# Altium footprint library SIMetrix Devices.PcbLib: 159 footprints (part 4 of 10)
Each footprint in its own frame and in the unit in brackets; x right, y up, seen from the top. Pads: shape width x height; smd on the part's side, far side on the other; paste and mask are expansions set on the pad; w line width, h text height; cw(c..) or ccw(c..) is an arc to the next point about the centre after c.
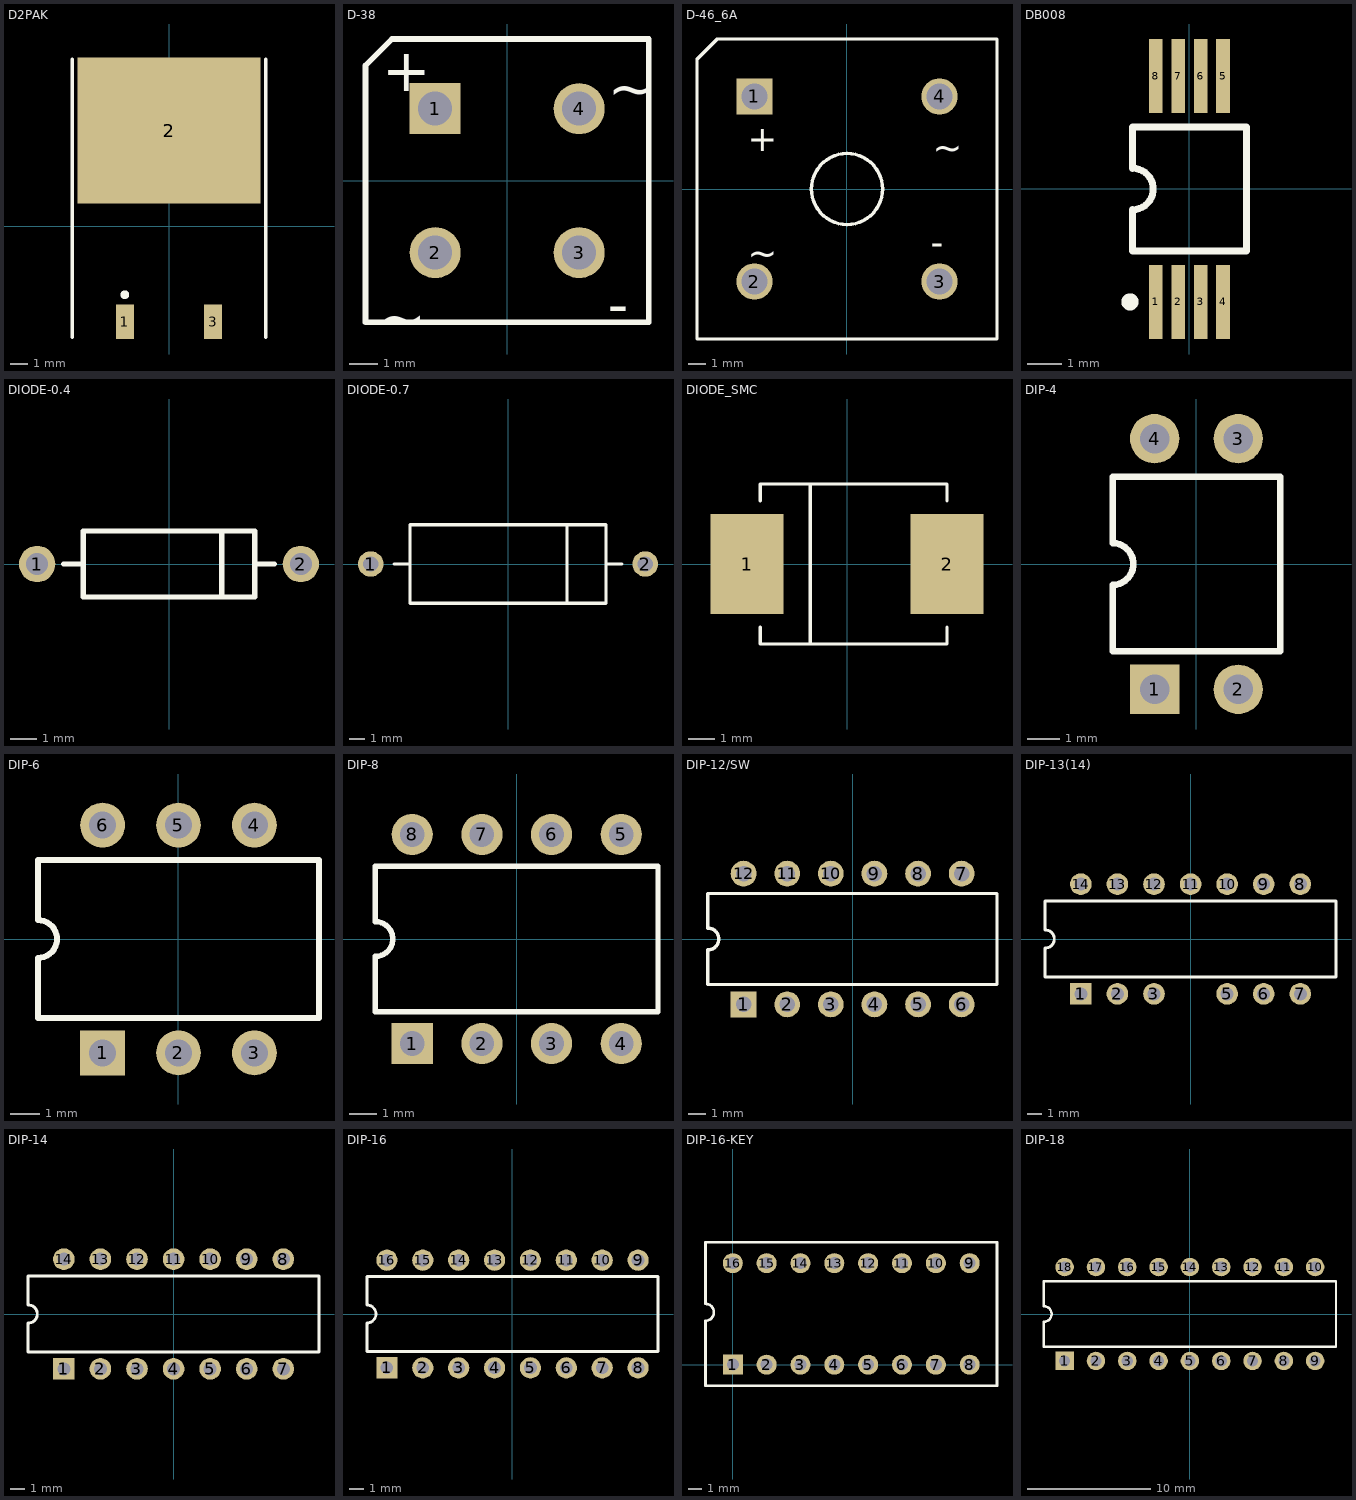
[diagram p3: the footprints below, top view; thin cyan lines are the x and y axes]

## D2PAK [mm] "D2-PAK/TO-263-AB; 3 Leads (1 Cropped); Body 15.5 (inc. leads) x 10.5 mm (LxW max)"
height 4.69
pads (3):
  rect 1.05x2 smd: 1(-2.54,-5.5) 3(2.54,-5.5)
  rect 10.55x8.4 smd: 2(0,5.5)
Top Overlay:
  circle w0.25: c-2.54,-3.95 r0.125
  lines w0.2: -5.575,-6.4 -5.575,9.6 ; 5.575,-6.4 5.575,9.6

## D-38 [mm] "Bridge Rectifier; 4 Terminals; Body 9.4 x 9.4 mm (typ); Pitch 5.08 mm"
height 9.91
pads (4):
  rect 1.8x1.8 hole 1.2: 1(-2.54,2.54)
  round 1.8 hole 1.2: 2(-2.54,-2.54) 3(2.54,-2.54) 4(2.54,2.54)
Top Overlay:
  lines w0.2: -5,-5 -5,4.064 -4.064,5 5,5 5,-5 -5,-5
  text "+" at -4.41,3.164 h1.5
  text "-" at 3.556,-5.08 h1.5
  text "~" at -4.572,-5.588 h1.5
  text "~" at 3.556,2.54 h1.5

## D-46_6A [mm] "Bridge Rectifier; 4 Terminals; Body 16.8 x 16.8 mm (typ); Pitch 10.67 mm"
height 6.35
pads (4):
  rect 2.1x2.1 hole 1.5: 1(-5.335,5.335)
  round 2.1 hole 1.5: 2(-5.335,-5.335) 3(5.335,-5.335) 4(5.335,5.335)
Top Overlay:
  circle w0.2: c0,0 r2.05
  lines w0.2: -8.65,-8.65 8.65,-8.65 8.65,8.65 -7.474,8.65 -8.65,7.474 -8.65,-8.65
  text "~" at -5.723,-4.437 h1.5
  text "~" at 4.945,1.659 h1.5
  text "-" at 4.825,-3.809 h1.5
  text "+" at -5.723,2.167 h1.5

## DB008 [mm] "Plastic SSOP; 8 Leads; Body Width 5.3 mm; Pitch 0.65 mm"
height 2
pads (8):
  rect 0.4x2.15 smd: 1(-0.975,-3.275) 2(-0.325,-3.275) 3(0.325,-3.275) 4(0.975,-3.275) 5(0.975,3.275) 6(0.325,3.275) 7(-0.325,3.275) 8(-0.975,3.275)
Top Overlay:
  circle w0.25: c-1.725,-3.275 r0.125
  lines w0.2: -1.65,-1.8 1.65,-1.8 1.65,1.8 -1.65,1.8 -1.65,0.6 cw(c-1.65,0) -1.65,-0.6 -1.65,-1.8

## DIODE-0.4 [mm] "Tunnel Diode - Dependent Source Model; 2 Leads"
height 2.54
pads (2):
  round 1.4 hole 0.85: 1(-5.08,0) 2(5.08,0)
Top Overlay:
  lines w0.2: -4.064,0 -3.302,0 ; 2.032,-1.27 2.032,1.27 ; 3.302,0 4.064,0 ; -3.302,-1.27 -3.302,1.27 3.302,1.27 3.302,-1.27 -3.302,-1.27

## DIODE-0.7 [mm] "Zener Diode; 2 Leads"
height 5.08
pads (2):
  round 1.65 hole 1: 1(-8.89,0) 2(8.89,0)
Top Overlay:
  lines w0.2: -7.366,0 -6.35,0 ; 3.81,-2.54 3.81,2.54 ; 6.35,0 7.366,0 ; -6.35,-2.54 -6.35,2.54 6.35,2.54 6.35,-2.54 -6.35,-2.54

## DIODE_SMC [mil] "Magnetic-Core Inductor with Winding Polarity Marking; 2 Leads"
pads (2):
  rect 110x150 smd: 1(-150,0) 2(150,0)
Top Overlay:
  lines w5: -130,-95 -130,-120 150,-120 150,-95 ; -130,95 -130,120 150,120 150,95 ; -55,-120 -55,120
Mechanical 1:
  lines w1: -130,-120 150,-120 ; -130,120 150,120

## DIP-4 [mm] "DIP; 4 Leads; Row Spacing 7.62 mm; Pitch 2.54 mm"
height 5.6
pads (4):
  rect 1.5x1.5 hole 0.9: 1(-1.27,-3.81)
  round 1.5 hole 0.9: 2(1.27,-3.81) 3(1.27,3.81) 4(-1.27,3.81)
Top Overlay:
  lines w0.2: -2.55,-2.65 2.55,-2.65 2.55,2.65 -2.55,2.65 -2.55,0.635 cw(c-2.55,0) -2.55,-0.635 -2.55,-2.65

## DIP-6 [mm] "DIP; 6 Leads; Row Spacing 7.62 mm; Pitch 2.54 mm"
height 5.46
pads (6):
  rect 1.5x1.5 hole 0.9: 1(-2.54,-3.81)
  round 1.5 hole 0.9: 2(0,-3.81) 3(2.54,-3.81) 4(2.54,3.81) 5(0,3.81) 6(-2.54,3.81)
Top Overlay:
  lines w0.2: -4.7,-2.65 -4.7,-0.635 ccw(c-4.7,0) -4.7,0.635 -4.7,2.65 4.7,2.65 4.7,-2.65 -4.7,-2.65

## DIP-8 [mm] "DIP; 8 Leads; Row Spacing 7.62 mm; Pitch 2.54 mm"
height 5.08
pads (8):
  rect 1.5x1.5 hole 0.9: 1(-3.81,-3.81)
  round 1.5 hole 0.9: 2(-1.27,-3.81) 3(1.27,-3.81) 4(3.81,-3.81) 5(3.81,3.81) 6(1.27,3.81) 7(-1.27,3.81) 8(-3.81,3.81)
Top Overlay:
  lines w0.2: -5.15,-2.65 -5.15,-0.635 ccw(c-5.15,0) -5.15,0.635 -5.15,2.65 5.15,2.65 5.15,-2.65 -5.15,-2.65

## DIP-12/SW [mm] "DIP Switch; 12 Leads"
height 5.8
pads (12):
  rect 1.5x1.5 hole 0.9: 1(-6.35,-3.81)
  round 1.5 hole 0.9: 2(-3.81,-3.81) 3(-1.27,-3.81) 4(1.27,-3.81) 5(3.81,-3.81) 6(6.35,-3.81) 7(6.35,3.81) 8(3.81,3.81) 9(1.27,3.81) 10(-1.27,3.81) 11(-3.81,3.81) 12(-6.35,3.81)
Top Overlay:
  lines w0.2: -8.43,-2.65 8.41,-2.65 8.41,2.65 -8.43,2.65 -8.43,0.635 cw(c-8.43,0) -8.43,-0.635 -8.43,-2.65

## DIP-13(14) [mm] "DIP; 14 Leads (1 Absent); Row Spacing 7.62 mm; Pitch 2.54 mm"
height 5.33
pads (13):
  rect 1.5x1.5 hole 0.9: 1(-7.62,-3.81)
  round 1.5 hole 0.9: 2(-5.08,-3.81) 3(-2.54,-3.81) 5(2.54,-3.81) 6(5.08,-3.81) 7(7.62,-3.81) 8(7.62,3.81) 9(5.08,3.81) 10(2.54,3.81) 11(0,3.81) 12(-2.54,3.81) 13(-5.08,3.81) 14(-7.62,3.81)
Top Overlay:
  lines w0.2: -10.1,-2.65 10.1,-2.65 10.1,2.65 -10.1,2.65 -10.1,0.635 cw(c-10.1,0) -10.1,-0.635 -10.1,-2.65

## DIP-14 [mm] "DIP; 14 Leads; Row Spacing 7.62 mm; Pitch 2.54 mm"
height 5.08
pads (14):
  rect 1.5x1.5 hole 0.9: 1(-7.62,-3.81)
  round 1.5 hole 0.9: 2(-5.08,-3.81) 3(-2.54,-3.81) 4(0,-3.81) 5(2.54,-3.81) 6(5.08,-3.81) 7(7.62,-3.81) 8(7.62,3.81) 9(5.08,3.81) 10(2.54,3.81) 11(0,3.81) 12(-2.54,3.81) 13(-5.08,3.81) 14(-7.62,3.81)
Top Overlay:
  lines w0.2: -10.1,-2.65 -10.1,-0.635 ccw(c-10.1,0) -10.1,0.635 -10.1,2.65 10.1,2.65 10.1,-2.65 -10.1,-2.65

## DIP-16 [mm] "DIP; 16 Leads; Row Spacing 7.62 mm; Pitch 2.54 mm"
height 5.08
pads (16):
  rect 1.5x1.5 hole 0.9: 1(-8.89,-3.81)
  round 1.5 hole 0.9: 2(-6.35,-3.81) 3(-3.81,-3.81) 4(-1.27,-3.81) 5(1.27,-3.81) 6(3.81,-3.81) 7(6.35,-3.81) 8(8.89,-3.81) 9(8.89,3.81) 10(6.35,3.81) 11(3.81,3.81) 12(1.27,3.81) 13(-1.27,3.81) 14(-3.81,3.81) 15(-6.35,3.81) 16(-8.89,3.81)
Top Overlay:
  lines w0.2: -10.3,-2.65 -10.3,-0.635 ccw(c-10.3,0) -10.3,0.635 -10.3,2.65 10.3,2.65 10.3,-2.65 -10.3,-2.65

## DIP-16-KEY [mm] "DIP; 16 Leads; Row Spacing 7.62 mm; Pitch 2.54 mm"
pads (16):
  rect 1.5x1.5 hole 0.9: 1(0,0)
  round 1.5 hole 0.9: 2(2.54,0) 3(5.08,0) 4(7.62,0) 5(10.16,0) 6(12.7,0) 7(15.24,0) 8(17.78,0) 9(17.78,7.62) 10(15.24,7.62) 11(12.7,7.62) 12(10.16,7.62) 13(7.62,7.62) 14(5.08,7.62) 15(2.54,7.62) 16(0,7.62)
Top Overlay:
  lines w0.2: -2.05,4.57 cw(c-2.05,3.935) -2.05,3.3 -2.05,-1.59 19.83,-1.59 19.83,9.2 -2.05,9.2 -2.05,4.6

## DIP-18 [mm] "DIP; 18 Leads; Row Spacing 7.62 mm; Pitch 2.54 mm"
height 5.08
pads (18):
  rect 1.5x1.5 hole 0.9: 1(-10.16,-3.81)
  round 1.5 hole 0.9: 2(-7.62,-3.81) 3(-5.08,-3.81) 4(-2.54,-3.81) 5(0,-3.81) 6(2.54,-3.81) 7(5.08,-3.81) 8(7.62,-3.81) 9(10.16,-3.81) 10(10.16,3.81) 11(7.62,3.81) 12(5.08,3.81) 13(2.54,3.81) 14(0,3.81) 15(-2.54,3.81) 16(-5.08,3.81) 17(-7.62,3.81) 18(-10.16,3.81)
Top Overlay:
  lines w0.2: -11.85,-2.65 11.85,-2.65 11.85,2.65 -11.85,2.65 -11.85,0.635 cw(c-11.85,0) -11.85,-0.635 -11.85,-2.65